# Altium schematic symbol library STM32F103C8.SCHLIB: 19 symbols
Pins are listed as number, name and electrical type; pins without a type are passive.

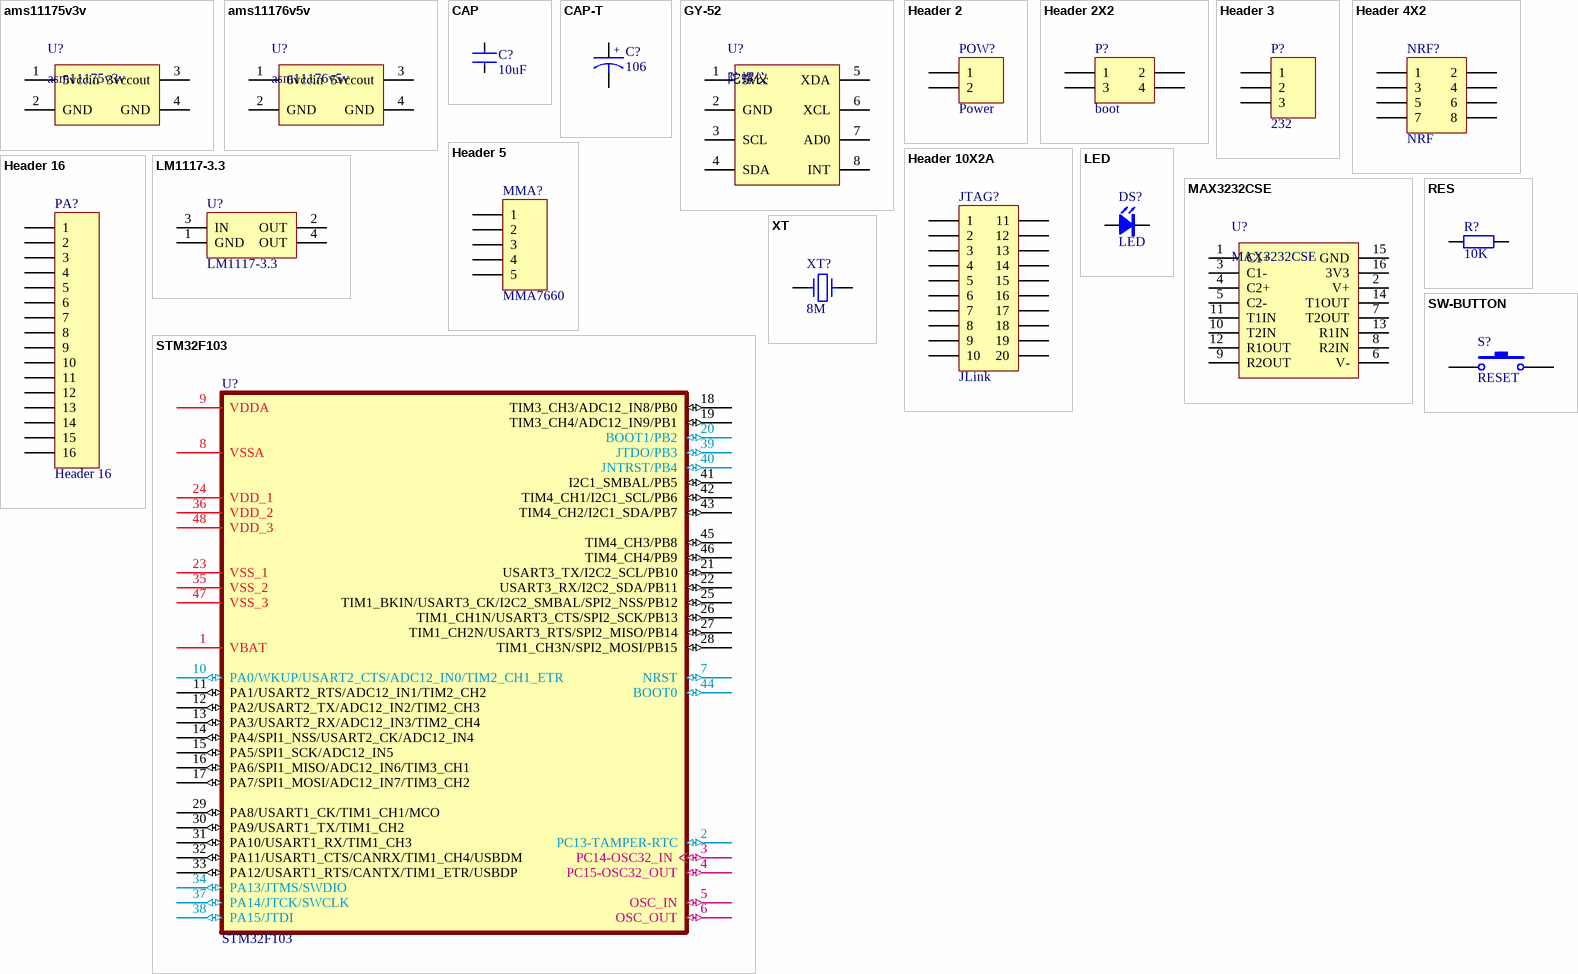
[diagram p0: symbols ams11175v3v to XT]

## ams11175v3v
designator U?, comment asm11175v3v
5vת3v
footprint ams11175v3v (6vת5v)
pins: 1 5vccin (power), 2 GND (power), 3 3vccout (power), 4 GND (power)

## ams11176v5v
designator U?, comment asm11176v5v
6vת5v
footprint ams11176v5v (6vת5v)
pins: 1 6vccin (power), 2 GND (power), 3 5vccout (power), 4 GND (power)

## CAP
designator C?, comment 10uF
普通小电容
footprint 0603C
footprint 0805C
footprint 1206C
footprint 1812C
footprint RAD0.2
footprint RAD0.3
footprint RAD0.6
footprint RAD0.1
footprint RAD0.4
footprint RAD0.7
footprint RAD0.2-1
pins: 1, 2

## CAP-T
designator C?, comment 106
钽电容
footprint 6032C
footprint 3216C
footprint 3528C
pins: 1, 2
text: +

## GY-52
designator U?, comment 陀螺仪
pins: 1 5vcc (power), 2 GND (power), 3 SCL, 4 SDA, 5 XDA, 6 XCL, 7 AD0, 8 INT

## Header 2
designator POW?, comment Power
Header, 2-Pin; LatestRevisionDate: 17-Jul-2002; LatestRevisionNote: Re-released for DXP Platform.; Publisher: Altium Limited
footprint HDR1X2 (Connector; Header; 2 Position)
footprint HDR1X2H
footprint CONNECT2
footprint JUMP
footprint TJC3-2A
footprint EDG3.5-2
pins: 1, 2

## Header 2X2
designator P?, comment boot
Header, 2-Pin, Dual row; LatestRevisionDate: 17-Jul-2002; LatestRevisionNote: Re-released for DXP Platform.; Publisher: Altium Limited
footprint HDR2X2 (Connector; Header; 2x2 Position)
signal-integrity model Connector
pins: 1, 2, 3, 4

## Header 3
designator P?, comment 232
Header, 3-Pin; LatestRevisionDate: 17-Jul-2002; LatestRevisionNote: Re-released for DXP Platform.; Publisher: Altium Limited
footprint HDR1X3
footprint hearder3
footprint HDR1X3 -2.0
footprint CONNECT3-4.0mm - duplicate
footprint TJC3-3A
pins: 1, 2, 3

## Header 4X2
designator NRF?, comment NRF
Header, 4-Pin, Dual row; LatestRevisionDate: 17-Jul-2002; LatestRevisionNote: Re-released for DXP Platform.; Publisher: Altium Limited
footprint HDR2X4 (Connector; Header; 4x2 Position)
signal-integrity model Connector
pins: 1, 2, 3, 4, 5, 6, 7, 8

## Header 5
designator MMA?, comment MMA7660
Header, 5-Pin; LatestRevisionDate: 17-Jul-2002; LatestRevisionNote: Re-released for DXP Platform.; Publisher: Altium Limited
footprint HDR1X5 (Connector; Header; 5 Position)
footprint CONNECT5-4.0mm
footprint TJC3-5A
footprint EDG3.5-5
pins: 1, 2, 3, 4, 5

## Header 10X2A
designator JTAG?, comment JLink
Header, 10-Pin, Dual row; LatestRevisionDate: 17-Jul-2002; LatestRevisionNote: Re-released for DXP Platform.; Publisher: Altium Limited
footprint HDR2X10_CEN (Connector; Header; 10x2 Position)
signal-integrity model Connector
pins: 1, 2, 3, 4, 5, 6, 7, 8, 9, 10, 11, 12, 13, 14, 15, 16, 17, 18, 19, 20

## Header 16
designator PA?
Header, 16-Pin; LatestRevisionDate: 17-Jul-2002; LatestRevisionNote: Re-released for DXP Platform.; Publisher: Altium Limited
footprint HDR1X16 (Connector; Header; 16 Position)
signal-integrity model Connector
pins: 1, 2, 3, 4, 5, 6, 7, 8, 9, 10, 11, 12, 13, 14, 15, 16

## LED
designator DS?
footprint 0805D
footprint LED-3
footprint LED-5
footprint 0603D
pins: A 1, K 2

## LM1117-3.3
designator U?
800mA and 1A Low Dropout Positive Regulator 2.85V, 3.3V, 5V, and Adjustable; PackageDocument: revC; Published: 8-Jun-2000; LatestRevisionDate: 17-Jul-2002; LatestRevisionNote: Re-released for DXP Platform.; DatasheetDocument: Sep-1997; PackageReference: ZZ311; Publisher: Altium Limited; ComponentLink1Description: Manufacturer Link; ComponentLink1URL: http://www.ti.com/
footprint SOT223 (SOT223/SC73, 4-Leads, Body 6.5x3.5mm, Pitch 2.3mm, Lead Span 7mm, IPC High Density)
pins: 1 GND (power), 2 OUT (power), 3 IN (power), 4 OUT (power)

## MAX3232CSE
designator U?
footprint MAX3232CSE (SOP, 16-Leads, Body 10.0x4.0mm (max), Pitch 1.27mm, IPC Medium Density)
pins: 1 C1+, 2 V+, 3 C1-, 4 C2+, 5 C2-, 6 V-, 7 T2OUT, 8 R2IN, 9 R2OUT, 10 T2IN, 11 T1IN, 12 R1OUT, 13 R1IN, 14 T1OUT, 15 GND (power), 16 3V3 (power)

## RES
designator R?, comment 10K
普通电阻
footprint 0805R
footprint 0603R
footprint 1206R
footprint 1210R
footprint 1812R
footprint 2010R
footprint 2220R
footprint R-AXIAL0.3
footprint R-AXIAL0.4
footprint R-AXIAL0.5
footprint R-SQP3W
footprint R-SQP5W
footprint R-SQP10W
footprint R-SQP20W
pins: 1, 2

## STM32F103
designator U?
footprint LQFP48
pins: 1 VBAT (power), 2 PC13-TAMPER-RTC (io), 3 PC14-OSC32_IN (io), 4 PC15-OSC32_OUT (io), 5 OSC_IN (io), 6 OSC_OUT (io), 7 NRST (io), 8 VSSA (power), 9 VDDA (power), 10 PA0/WKUP/USART2_CTS/ADC12_IN0/TIM2_CH1_ETR (io), 11 PA1/USART2_RTS/ADC12_IN1/TIM2_CH2 (io), 12 PA2/USART2_TX/ADC12_IN2/TIM2_CH3 (io), 13 PA3/USART2_RX/ADC12_IN3/TIM2_CH4 (io), 14 PA4/SPI1_NSS/USART2_CK/ADC12_IN4 (io), 15 PA5/SPI1_SCK/ADC12_IN5 (io), 16 PA6/SPI1_MISO/ADC12_IN6/TIM3_CH1 (io), 17 PA7/SPI1_MOSI/ADC12_IN7/TIM3_CH2 (io), 18 TIM3_CH3/ADC12_IN8/PB0 (io), 19 TIM3_CH4/ADC12_IN9/PB1 (io), 20 BOOT1/PB2 (io), 21 USART3_TX/I2C2_SCL/PB10 (io), 22 USART3_RX/I2C2_SDA/PB11 (io), 23 VSS_1 (power), 24 VDD_1 (power), 25 TIM1_BKIN/USART3_CK/I2C2_SMBAL/SPI2_NSS/PB12 (io), 26 TIM1_CH1N/USART3_CTS/SPI2_SCK/PB13 (io), 27 TIM1_CH2N/USART3_RTS/SPI2_MISO/PB14 (io), 28 TIM1_CH3N/SPI2_MOSI/PB15 (io), 29 PA8/USART1_CK/TIM1_CH1/MCO (io), 30 PA9/USART1_TX/TIM1_CH2 (io), 31 PA10/USART1_RX/TIM1_CH3 (io), 32 PA11/USART1_CTS/CANRX/TIM1_CH4/USBDM (io), 33 PA12/USART1_RTS/CANTX/TIM1_ETR/USBDP (io), 34 PA13/JTMS/SWDIO (io), 35 VSS_2 (power), 36 VDD_2 (power), 37 PA14/JTCK/SWCLK (io), 38 PA15/JTDI (io), 39 JTDO/PB3 (io), 40 JNTRST/PB4 (io), 41 I2C1_SMBAL/PB5 (io), 42 TIM4_CH1/I2C1_SCL/PB6 (io), 43 TIM4_CH2/I2C1_SDA/PB7 (io), 44 BOOT0 (io), 45 TIM4_CH3/PB8 (io), 46 TIM4_CH4/PB9 (io), 47 VSS_3 (power), 48 VDD_3 (power)

## SW-BUTTON
designator S?, comment RESET
footprint SW-KEY
pins: 1, 2

## XT
designator XT?, comment 8M
晶振
footprint XTAL-49S
footprint XTAL-49X
footprint AT26
footprint 3215
footprint 5032
pins: 1, 2